# Altium footprint library IPC-SM-782 Section 8.8 SOD123.PcbLib: 1 footprints
Each footprint in its own frame and in the unit in brackets; x right, y up, seen from the top. Pads: shape width x height; smd on the part's side, far side on the other; paste and mask are expansions set on the pad; w line width, h text height; cw(c..) or ccw(c..) is an arc to the next point about the centre after c.
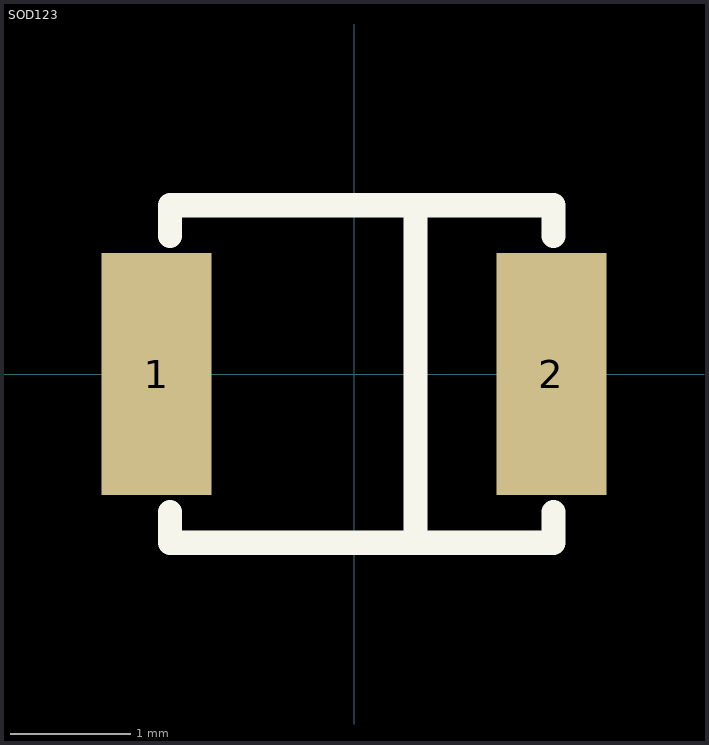
[diagram p0: the footprint, top view; thin cyan lines are the x and y axes]

## SOD123 [mm] "SOD-123; 2 Leads; Body 2.7 x 1.6 mm, (LxW)"
height 1.35
pads (2):
  rect 0.91x2 smd: 1(-1.635,0) 2(1.635,0)
Top Overlay:
  lines w0.2: -1.524,-1.143 -1.524,-1.397 1.651,-1.397 1.651,-1.143 ; -1.524,1.143 -1.524,1.397 1.651,1.397 1.651,1.143 ; 0.508,-1.397 0.508,1.397